# Altium schematic symbol library Zener Diode 5.1V.SchLib: 1 symbol
Pins are listed as number, name and electrical type; pins without a type are passive.

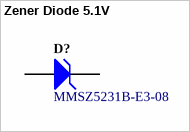
[diagram p0: symbol Zener Diode 5.1V]

## Zener Diode 5.1V
designator D?, comment MMSZ5231B-E3-08
Small Signal Zener Diode, 5.1 V +/- 5%, -55 to 155 degC, 2-Pin SOD-123, RoHS, Tape and Reel; Manufacturer: Vishay Semiconductor; Tolerance: +/- 5%; Test Current (IZT1) (mA): 20; Zener Impedance (IZT1) (Max.) (Ohm): 17; Zener Voltage (NOM.) (V): 5.1; Power Dissipation (mW): 500; Int. Construction: Single; RoHS: TRUE; PackageDescription: 2-Pin SMD, Body 2.7 x 1.55 mm, Height 1.35 mm; ComponentLink1Description: Manufacturer URL; Packing: Tape and Reel; Operating Temperature: -55 to 150 degC; PackageReference: SOD-123-2; Mounting Technology: Surface Mount; ComponentLink3URL: http://www.vishay.com/docs/85774/mmsz5225.pdf; ComponentLink3Description: Package Specification; ComponentLink2Description: Datasheet; DatasheetVersion: Rev. 1.9; PartNumber: MMSZ5231B-E3-08; PackageVersion: Rev. 1.9; ComponentLink2URL: http://www.vishay.com/docs/85774/mmsz5225.pdf; ComponentLink1URL: http://www.vishay.com/
footprint VISH-SOD-123-2_V (SMD, 2-Leads, Body 2.7x1.55mm, Height 1.35mm)
pins: 1 A, 2 K